# Altium footprint library PcbLib_Acura.PcbLib: 154 footprints (part 7 of 10)
Each footprint in its own frame and in the unit in brackets; x right, y up, seen from the top. Pads: shape width x height; smd on the part's side, far side on the other; paste and mask are expansions set on the pad; w line width, h text height; cw(c..) or ccw(c..) is an arc to the next point about the centre after c.
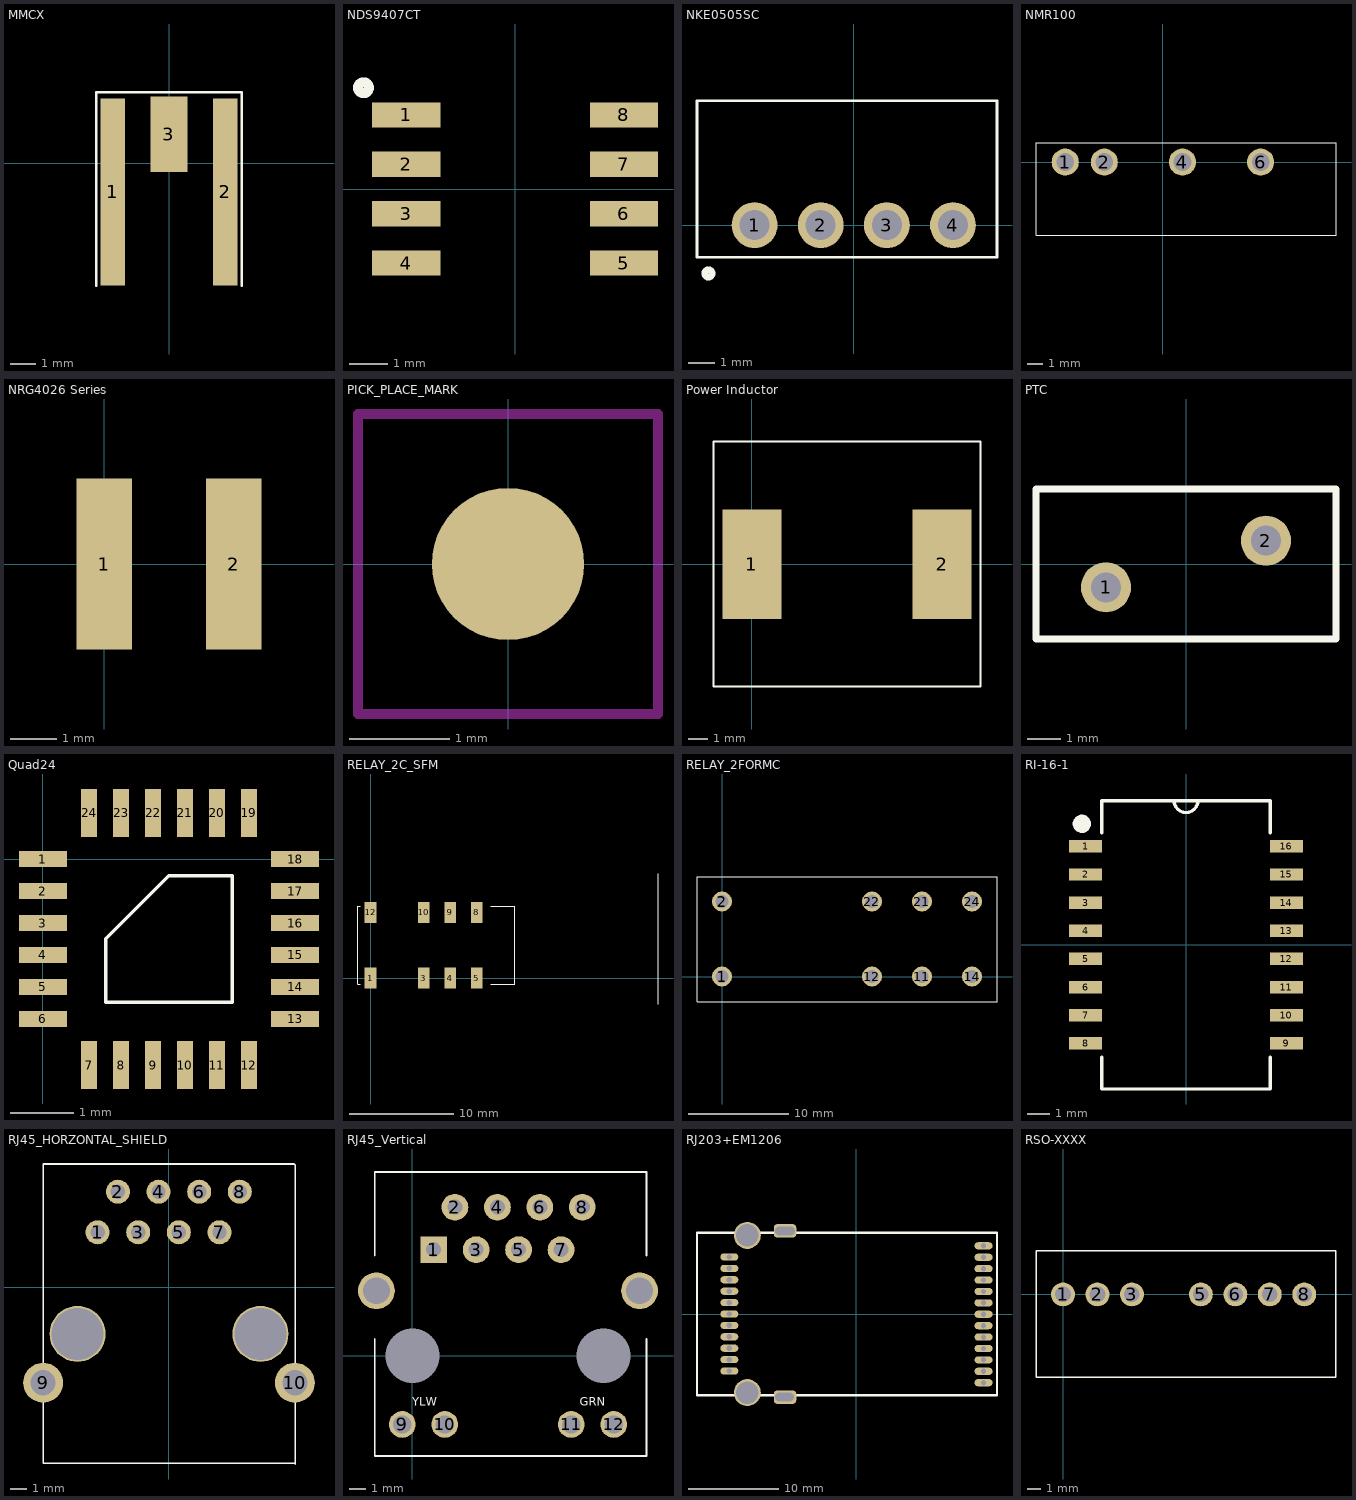
[diagram p6: the footprints below, top view; thin cyan lines are the x and y axes]

## MMCX [mm]
pads (3):
  rect 0.97x7.42 smd: 1(-2.235,-1.145) 2(2.235,-1.145)
  rect 1.47x3 smd: 3(-0.005,1.145)
Top Overlay:
  lines w0.1: -2.875,-4.865 -2.875,2.695 -2.875,2.804 -2.725,2.804 -2.724,2.805 -0.545,2.805 2.875,2.805 2.875,2.365 2.875,-4.855

## NDS9407CT [mm]
pads (8):
  rect 1.75x0.65 smd: 1(-2.8,1.905) 2(-2.8,0.635) 3(-2.8,-0.635) 4(-2.8,-1.905) 5(2.8,-1.905) 6(2.8,-0.635) 7(2.8,0.635) 8(2.8,1.905)
Top Overlay:
  circle w0.254: c-3.9,2.605 r0.141

## NKE0505SC [mm] "CONV DC DC"
pads (4):
  round 1.762 hole 1.15: 1(-3.81,0) 2(-1.27,0) 3(1.27,0) 4(3.81,0)
Top Overlay:
  circle w0.254: c-5.58,-1.855 r0.141
  lines w0.1: -6.02,-1.23 5.5,-1.23 5.5,4.77 -6.02,4.77 -6.02,-1.23

## NMR100 [mm] "CONV DC DC"
pads (4):
  round 1.762 hole 1.15: 1(-6.35,0) 2(-3.81,0) 4(1.27,0) 6(6.35,0)
Top Overlay:
  lines w0.05: -8.25,-4.75 11.25,-4.75 11.25,1.25 -8.25,1.25 -8.25,-4.75

## NRG4026 Series [mm] "Inductor"
pads (2):
  rect 1.2x3.7 smd: 1(0,0) 2(2.8,0)

## PICK_PLACE_MARK [mil]
pads (1):
  round 60 smd: ""(0,0)
Top Solder:
  rectangle: -59.06,-59.06 59.06,59.06
Keep-Out Layer:
  lines w3.94: -59.06,-59.06 -59.06,59.06 59.06,59.06 59.06,-59.06 -59.06,-59.06

## Power Inductor [mm] "Inductor"
pads (2):
  rect 3x5.6 smd: 1(0,0) 2(9.7,0)
Top Overlay:
  lines w0.1: -1.96,-6.24 -1.96,6.26 11.66,6.26 11.66,-6.24 -1.96,-6.24

## PTC [mm]
pads (2):
  round 1.5 hole 0.9: 1(-2.4,-0.7) 2(2.4,0.7)
Top Overlay:
  lines w0.2: -4.5,-2.25 4.5,-2.25 4.5,2.25 -4.5,2.25 -4.5,-2.25

## Quad24 [mm]
pads (24):
  rect 0.75x0.25 smd: 1(0,0) 2(0,-0.5) 3(0,-1) 4(0,-1.5) 5(0,-2) 6(0,-2.5) 13(3.95,-2.5) 14(3.95,-2) 15(3.95,-1.5) 16(3.95,-1) 17(3.95,-0.5) 18(3.95,0)
  rect 0.25x0.75 smd: 7(0.725,-3.225) 8(1.225,-3.225) 9(1.725,-3.225) 10(2.225,-3.225) 11(2.725,-3.225) 12(3.225,-3.225) 19(3.225,0.725) 20(2.725,0.725) 21(2.225,0.725) 22(1.725,0.725) 23(1.225,0.725) 24(0.725,0.725)
Top Overlay:
  lines w0.05: 0.985,-2.24 2.965,-2.24 2.965,-0.26 1.97,-0.26 0.985,-1.245 0.985,-2.24

## RELAY_2C_SFM [mm] "GP Relay SR2M Surface Mount"
height 10
pads (8):
  rect 1.11x2 smd: 1(0,0) 3(5.08,0) 4(7.62,0) 5(10.16,0) 8(10.16,6.29) 9(7.62,6.29) 10(5.08,6.29) 12(0,6.29)
Top Overlay:
  lines w0.1: -1,-0.6 -1.2,-0.6 -1.2,6.9 -1,6.9 ; 11.5,-0.6 13.8,-0.6 13.8,6.9 11.5,6.9 ; 27.5,-2.5 27.5,10

## RELAY_2FORMC [mm] "Force Guided Relay SR2M"
height 25.5
pads (8):
  round 2 hole 1.3: 1(0,0) 2(0,7.5) 11(20,0) 12(15,0) 14(25,0) 21(20,7.5) 22(15,7.5) 24(25,7.5)
Top Overlay:
  lines w0.1: -2.5,-2.5 27.5,-2.5 27.5,10 -2.5,10 -2.5,-2.5

## RI-16-1 [mm] "For ADM2682E"
pads (16):
  rect 1.5x0.561 smd: 1(-4.527,4.445) 2(-4.527,3.175) 3(-4.527,1.905) 4(-4.527,0.635) 5(-4.527,-0.635) 6(-4.527,-1.905) 7(-4.527,-3.175) 8(-4.527,-4.445) 9(4.527,-4.445) 10(4.527,-3.175) 11(4.527,-1.905) 12(4.527,-0.635) 13(4.527,0.635) 14(4.527,1.905) 15(4.527,3.175) 16(4.527,4.445)
Top Overlay:
  circle w0.254: c-4.826,5.461 r0.127
  circle w0.254: c-4.699,5.461 r0.18
  circle w0.254: c-4.699,5.461 r0.284
  lines w0.152: -3.8,-5.058 -3.8,-6.5 3.8,-6.5 3.8,-5.058 ; -3.8,5.058 -3.8,6.5 3.8,6.5 3.8,5.058 ; -0.531,6.5 ccw(c0,6.5) 0.531,6.5

## RJ45_HORZONTAL_SHIELD [mm]
pads (12):
  round 1.5 hole 0.9: 1(-4.465,3.43) 2(-3.195,5.97) 3(-1.925,3.43) 4(-0.655,5.97) 5(0.615,3.43) 6(1.885,5.97) 7(3.155,3.43) 8(4.425,5.97)
  round 2.5 hole 1.57: 9(-7.865,-5.97) 10(7.865,-5.97)
  round 3.5 hole 3.25 unplated: ""(-5.715,-2.92) ""(5.715,-2.92)
Top Overlay:
  lines w0.1: 7.835,-11 -7.865,-11 -7.865,-2.87 -7.865,7.7 7.835,7.7 ; 7.885,-11.05 7.885,-2.92 7.885,7.65

## RJ45_Vertical [mm] "Conector RJ45 vertical, com LEDs"
height 17.02
pads (16):
  rect 1.6x1.6 hole 0.9: 1(1.27,6.35)
  round 1.6 hole 0.9: 2(2.54,8.89) 3(3.81,6.35) 4(5.08,8.89) 5(6.35,6.35) 6(7.62,8.89) 7(8.89,6.35) 8(10.16,8.89)
  round 1.6 hole 1.1: 9(-0.61,-4.11) 10(1.93,-4.11) 11(9.5,-4.11) 12(12.04,-4.11)
  round 2.2 hole 1.6: ""(-2.16,3.89) ""(13.59,3.89)
  round 0 hole 3.25 unplated: ""(0,0) ""(11.43,0)
Top Overlay:
  lines w0.1: -2.26,1 -2.26,-6 14,-6 14,1 ; -2.26,6 -2.26,11 14,11 14,6
  text "GRN" at 10,-3 h0.5
  text "YLW" at 0,-3 h0.5

## RJ203+EM1206 [mm] "BASIC-programmable embedded module"
height 15.5
pads (37):
  oval 2x0.8 hole 0.6: 1A(14.15,7.59) 1B(-14.15,6.35) 2A(14.15,6.32) 2B(-14.15,5.08) 3A(14.15,5.05) 3B(-14.15,3.81) 4A(14.15,3.78) 4B(-14.15,2.54) 5A(14.15,2.51) 5B(-14.15,1.27) 6A(14.15,1.24) 6B(-14.15,0) 7A(14.15,-0.03) 7B(-14.15,-1.27) 8A(14.15,-1.3) 8B(-14.15,-2.54) 9A(14.15,-2.57) 9B(-14.15,-3.81) 10A(14.15,-3.84) 10B(-14.15,-5.08) 11A(14.15,-5.11) 11B(-14.15,-6.35) 12A(14.15,-6.38) 13A(14.15,-7.65)
  round 3 hole 2.5: ""(-12.15,-8.75) ""(-12.15,8.75)
  round 0 hole 1: ""(-8.55,-9.25) ""(-8.55,9.25) ""(-8.25,-9.25) ""(-8.25,9.25) ""(-7.75,-9.25) ""(-7.75,9.25) ""(-7.55,9.25) ""(-7.45,-9.25) ""(-7.35,9.25)
  rrect50% 2.5x1.5 hole 1: ""(-7.95,-9.25) ""(-7.95,9.25)
Top Overlay:
  lines w0.254: -17.75,-9.05 15.65,-9.05 15.65,9.05 -17.75,9.05 -17.75,-9.05
Mechanical 1:
  lines w0.254: 14.09,2.45 14.15,2.51

## RSO-XXXX [mm] "CONV DC DC RECOM"
pads (7):
  round 1.762 hole 1.15: 1(0,0) 2(2.54,0) 3(5.08,0) 5(10.16,0) 6(12.7,0) 7(15.24,0) 8(17.78,0)
Top Overlay:
  lines w0.1: -1.99,-6.1 20.12,-6.1 20.12,3.21 -1.99,3.21 -1.99,-6.1